# Altium footprint library 1218R.PcbLib: 1 footprints
Each footprint in its own frame and in the unit in brackets; x right, y up, seen from the top. Pads: shape width x height; smd on the part's side, far side on the other; paste and mask are expansions set on the pad; w line width, h text height; cw(c..) or ccw(c..) is an arc to the next point about the centre after c.
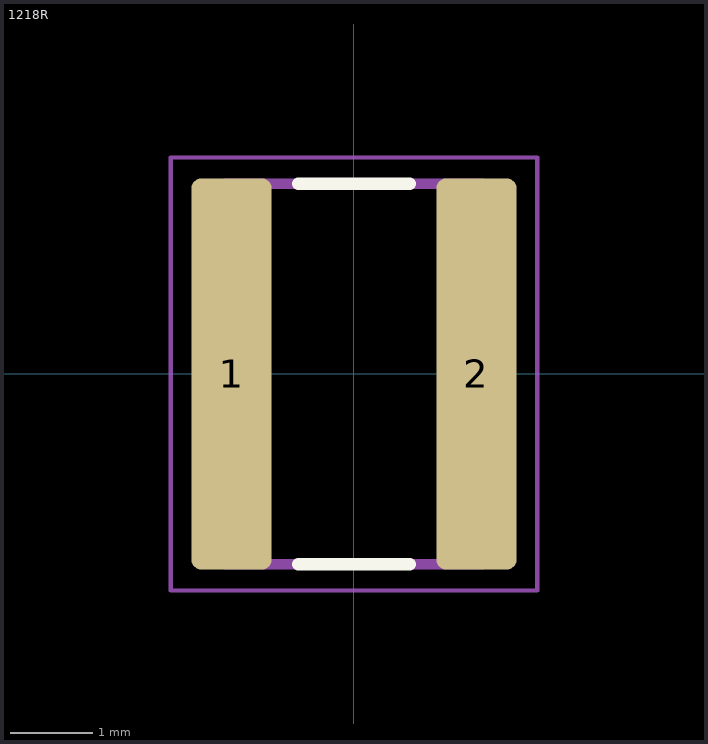
[diagram p0: the footprint, top view; thin cyan lines are the x and y axes]

## 1218R [mm]
height 0.65
pads (2):
  rrect25% 0.97x4.73 smd: 1(-1.48,0) 2(1.48,0)
Top Overlay:
  lines w0.15: -0.675,-2.3 0.675,-2.3 ; -0.675,2.3 0.675,2.3
Assembly Top:
  lines w0.127: -1.55,-2.3 1.55,-2.3 1.55,2.3 -1.55,2.3 -1.55,-2.3
Courtyard Top:
  lines w0.05: -2.215,-2.615 2.215,-2.615 2.215,2.615 -2.215,2.615 -2.215,-2.615
3D body "step_temp.STEP": height 0.67, standoff 0, extent -1.55,-2.3 1.55,2.3